# Altium footprint library 2mm_pads_8.PcbLib: 1 footprints
Each footprint in its own frame and in the unit in brackets; x right, y up, seen from the top. Pads: shape width x height; smd on the part's side, far side on the other; paste and mask are expansions set on the pad; w line width, h text height; cw(c..) or ccw(c..) is an arc to the next point about the centre after c.
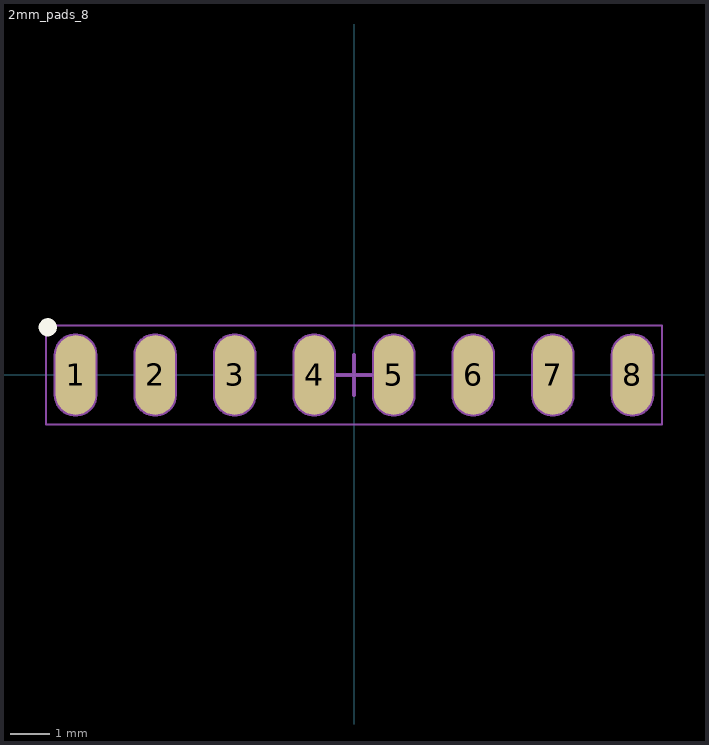
[diagram p0: the footprint, top view; thin cyan lines are the x and y axes]

## 2mm_pads_8 [mm]
pads (8):
  oval 1x2 smd paste-2539.97: 1(-7,0) 2(-5,0) 3(-3,0) 4(-1,0) 5(1,0) 6(3,0) 7(5,0) 8(7,0)
Top Overlay:
  circle w0.254: c-7.7,1.2 r0.1
Mechanical 1:
  lines w0.1: -7.5,-0.5 ccw(c-7,-0.5) -6.5,-0.5 -6.5,0.5 ccw(c-7,0.5) -7.5,0.5 -7.5,-0.5 ; -5.5,-0.5 ccw(c-5,-0.5) -4.5,-0.5 -4.5,0.5 ccw(c-5,0.5) -5.5,0.5 -5.5,-0.5 ; -3.5,-0.5 ccw(c-3,-0.5) -2.5,-0.5 -2.5,0.5 ccw(c-3,0.5) -3.5,0.5 -3.5,-0.5 ; -1.5,-0.5 ccw(c-1,-0.5) -0.5,-0.5 -0.5,0.5 ccw(c-1,0.5) -1.5,0.5 -1.5,-0.5 ; 0.5,-0.5 ccw(c1,-0.5) 1.5,-0.5 1.5,0.5 ccw(c1,0.5) 0.5,0.5 0.5,-0.5 ; 2.5,-0.5 ccw(c3,-0.5) 3.5,-0.5 3.5,0.5 ccw(c3,0.5) 2.5,0.5 2.5,-0.5 ; 4.5,-0.5 ccw(c5,-0.5) 5.5,-0.5 5.5,0.5 ccw(c5,0.5) 4.5,0.5 4.5,-0.5 ; 6.5,-0.5 ccw(c7,-0.5) 7.5,-0.5 7.5,0.5 ccw(c7,0.5) 6.5,0.5 6.5,-0.5
  text ".Designator" at -3.204,1.207 h0.65
Mechanical 2:
  lines w0.05: -7.75,-1.25 7.75,-1.25 7.75,1.25 -7.75,1.25 -7.75,-1.25
  lines w0.1: -0.5,0 0.5,0 ; 0,-0.5 0,0.5